# EAGLE library part MX1508 (library MX1508)
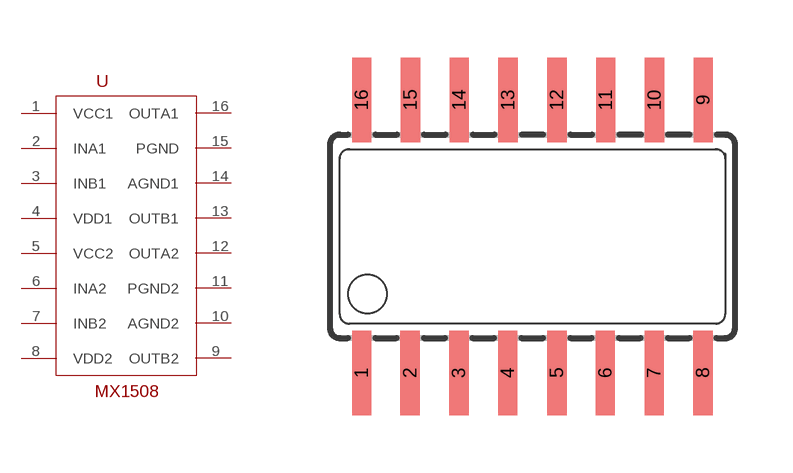
[diagram p0: symbol with the pads of SOP-16; footprint SOP-16]

Designator prefix -

## MX1508 (Availability: Unavailable; MF: Sinotech Mixic Electronics Co., Ltd; MP: MX1508; Package: Package; Price: None)  [SOP-16]
1  VCC1
2  INA1
3  INB1
4  VDD1
5  VCC2
6  INA2
7  INB2
8  VDD2
9  OUTB2
10  AGND2
11  PGND2
12  OUTA2
13  OUTB1
14  AGND1
15  PGND
16  OUTA1

## Footprint SOP-16 (pad centres in mm)
Small Outline Package
smd 0.5 x 2.2: 1 -4.445,-3.55; 2 -3.185,-3.55; 3 -1.915,-3.55; 4 -0.645,-3.55; 5 0.635,-3.55; 6 1.895,-3.55; 7 3.165,-3.55; 8 4.435,-3.55; 9 4.445,3.55; 10 3.175,3.55; 11 1.905,3.55; 12 0.635,3.55; 13 -0.635,3.55; 14 -1.905,3.55; 15 -3.175,3.55; 16 -4.445,3.55